# Altium schematic symbol library Relay.SchLib: 10 symbols
Pins are listed as number, name and electrical type; pins without a type are passive.

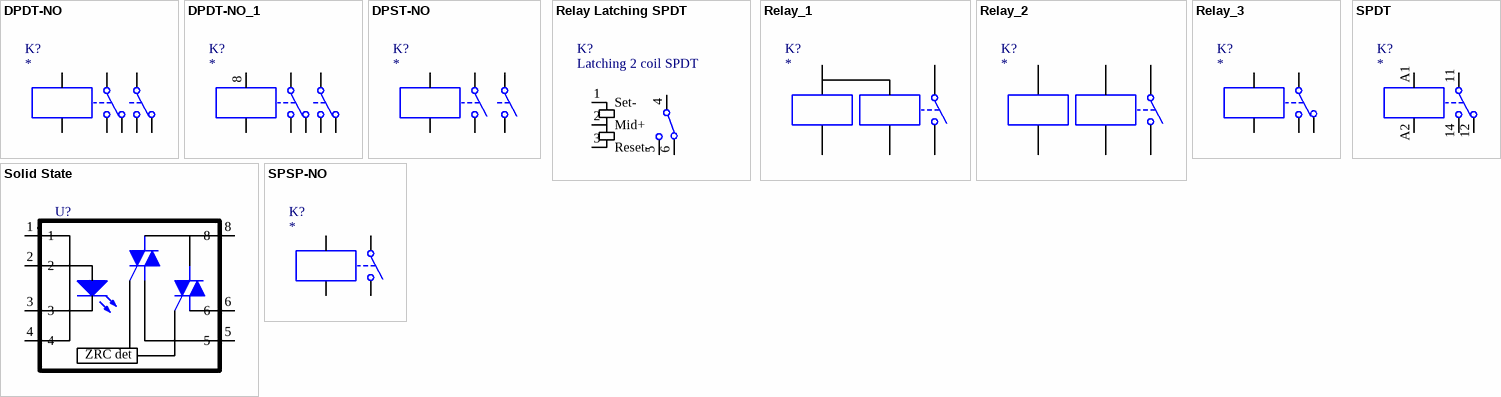
[diagram p0: symbols DPDT-NO to SPSP-NO]

## DPDT-NO
designator K?
Catalog: Farnell; Catalog number: 2060824; Value: 4-1462037-0; Price: 1.50; Catalog page: *
footprint IM01JR (4-1462037-0)
footprint V23105A5475A201
pins: 1, 2, 3, 4, 5, 6, 7, 8

## DPDT-NO_1
designator K?
Catalog: Farnell; Catalog number: 2060824; Value: 4-1462037-0; Price: 1.50; Catalog page: *
footprint IM01JR (4-1462037-0)
footprint V23105A5475A201
pins: 1, 2, 3, 4, 5, 6, 7, 8

## DPST-NO
designator K?
Catalog: Farnell; Catalog number: 1770608; Value: IME03GR; Price: *; Catalog page: *
footprint IME03GR
pins: 1, 3, 4, 5, 6, 8

## Relay Latching SPDT
designator K?, comment Latching 2 coil SPDT
footprint 16A_relay_ltch2
pins: 1 Set-, 2 Mid+, 3 Reset-, 4 P, 5 NO, 6 NC

## Relay_1
designator K?
Price: *; Catalog: *; Catalog number: *; Catalog page: *
footprint DK1A-2L-12V-F
pins: 1, 3, 4, 5, 6

## Relay_2
designator K?
Price: *; Catalog: *; Catalog number: *; Catalog page: *
pins: 1, 2, 3, 4, 7, 8

## Relay_3
designator K?
Price: *; Catalog: *; Catalog number: *; Catalog page: *
footprint 36.11.9.024.4001 (Relay Finder 36.11.9.024.4001)
pins: 11, 12, 14, A1, A2

## Solid State
designator U?, comment BC3213A  (value not drawn)
1.2A Solid State Relay (Triac Output)
pins: 1, 2, 3, 4, 5, 6, 8
text: ZRC det

## SPDT
designator K?
RM699B; Catalog page: *; Value: RM699B
footprint Relpol - RM699B (SPDT -RM699B)
pins: 11, 12, 14, A1, A2

## SPSP-NO
designator K?
Price: *; Catalog: *; Catalog number: *; Catalog page: *
footprint 36.11.9.024.4001 (Relay Finder 36.11.9.024.4001)
pins: 11, 14, A1, A2